# Altium schematic symbol library WE-VE.SchLib: 21 symbols
Pins are listed as number, name and electrical type; pins without a type are passive.

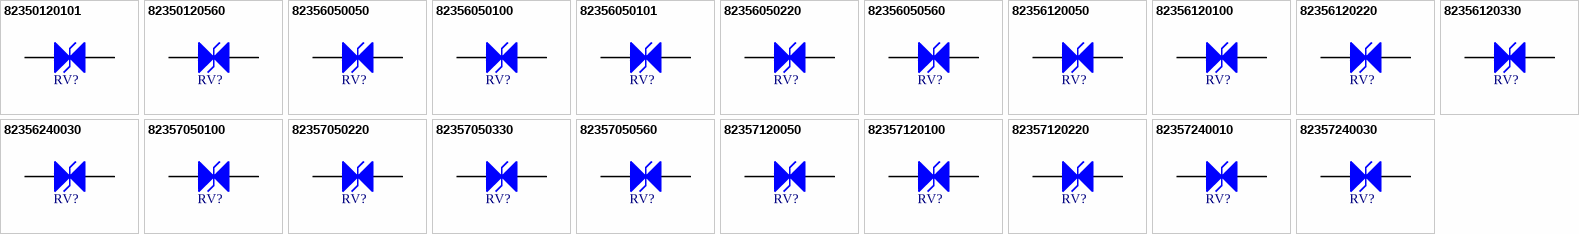
[diagram p0: symbols 82350120101 to 82357240030]

## 82350120101
designator RV?, comment 12VDC, 100pF  (value not drawn)
WE-VE ESD Suppressor, size 0805, 12VDC, 100pF; Manufacturer Part Number: 82350120101; Manufacturer: Wurth Elektronik; Case/Size Code: 0805; Clamping Voltage: 50V; ESD Voltage: 15kV; Insulation Resistance: 10MΩ; Leakage Current: 1µA; Operating Voltage (DC): 12V; ComponentLink1Description: Website Link; ComponentLink1URL: https://www.we-online.com/redexpert/article/82350120101?ad; ComponentLink2Description: Datasheet Link; ComponentLink2URL: https://www.we-online.com/redexpert/spec/82350120101?ad; Category: ESD Protection; Match Code: WE-VE; Mount: Surface Mount; Operating Temperature Max: 85°C; Operating Temperature Min: -40°C; Packaging: Tape and Reel; Length: 2mm; Width: 1.25mm; Height: 1.2mm; Capacitance: 100pF
footprint WE-VE_0805
pins: 1, 2

## 82350120560
designator RV?, comment 12VDC, 56pF  (value not drawn)
WE-VE ESD Suppressor, size 0805, 12VDC, 56pF; Manufacturer Part Number: 82350120560; Manufacturer: Wurth Elektronik; Case/Size Code: 0805; Clamping Voltage: 50V; ESD Voltage: 15kV; Insulation Resistance: 10MΩ; Leakage Current: 1µA; Operating Voltage (DC): 12V; ComponentLink1Description: Website Link; ComponentLink1URL: https://www.we-online.com/redexpert/article/82350120560?ad; ComponentLink2Description: Datasheet Link; ComponentLink2URL: https://www.we-online.com/redexpert/spec/82350120560?ad; Category: ESD Protection; Match Code: WE-VE; Mount: Surface Mount; Operating Temperature Max: 85°C; Operating Temperature Min: -40°C; Packaging: Tape and Reel; Length: 2mm; Width: 1.25mm; Height: 1.2mm; Capacitance: 56pF
footprint WE-VE_0805
pins: 1, 2

## 82356050050
designator RV?, comment 5VDC, 5pF  (value not drawn)
WE-VE ESD Suppressor, size 0603, 5VDC, 5pF; Manufacturer Part Number: 82356050050; Manufacturer: Wurth Elektronik; Case/Size Code: 0603; Clamping Voltage: 75V; ESD Voltage: 15kV; Insulation Resistance: 10MΩ; Leakage Current: 1µA; Operating Voltage (DC): 5V; ComponentLink1Description: Website Link; ComponentLink1URL: https://www.we-online.com/redexpert/article/82356050050?ad; ComponentLink2Description: Datasheet Link; ComponentLink2URL: https://www.we-online.com/redexpert/spec/82356050050?ad; Category: ESD Protection; Match Code: WE-VE; Mount: Surface Mount; Operating Temperature Max: 85°C; Operating Temperature Min: -40°C; Packaging: Tape and Reel; Length: 1.6mm; Width: 0.8mm; Height: 0.9mm; Capacitance: 5pF
footprint WE-VE_0603
pins: 1, 2

## 82356050100
designator RV?, comment 5VDC, 10pF  (value not drawn)
WE-VE ESD Suppressor, size 0603, 5VDC, 10pF; Manufacturer Part Number: 82356050100; Manufacturer: Wurth Elektronik; Case/Size Code: 0603; Clamping Voltage: 60V; ESD Voltage: 15kV; Insulation Resistance: 10MΩ; Leakage Current: 1µA; Operating Voltage (DC): 5V; ComponentLink1Description: Website Link; ComponentLink1URL: https://www.we-online.com/redexpert/article/82356050100?ad; ComponentLink2Description: Datasheet Link; ComponentLink2URL: https://www.we-online.com/redexpert/spec/82356050100?ad; Category: ESD Protection; Match Code: WE-VE; Mount: Surface Mount; Operating Temperature Max: 85°C; Operating Temperature Min: -40°C; Packaging: Tape and Reel; Length: 1.6mm; Width: 0.8mm; Height: 0.9mm; Capacitance: 10pF
footprint WE-VE_0603
pins: 1, 2

## 82356050101
designator RV?, comment 5VDC, 100pF  (value not drawn)
WE-VE ESD Suppressor, size 0603, 5VDC, 100pF; Manufacturer Part Number: 82356050101; Manufacturer: Wurth Elektronik; Case/Size Code: 0603; Clamping Voltage: 55V; ESD Voltage: 15kV; Insulation Resistance: 10MΩ; Leakage Current: 1µA; Operating Voltage (DC): 5V; ComponentLink1Description: Website Link; ComponentLink1URL: https://www.we-online.com/redexpert/article/82356050101?ad; ComponentLink2Description: Datasheet Link; ComponentLink2URL: https://www.we-online.com/redexpert/spec/82356050101?ad; Category: ESD Protection; Match Code: WE-VE; Mount: Surface Mount; Operating Temperature Max: 85°C; Operating Temperature Min: -40°C; Packaging: Tape and Reel; Length: 1.6mm; Width: 0.8mm; Height: 0.9mm; Capacitance: 100pF
footprint WE-VE_0603
pins: 1, 2

## 82356050220
designator RV?, comment 5VDC, 22pF  (value not drawn)
WE-VE ESD Suppressor, size 0603, 5VDC, 22pF; Manufacturer Part Number: 82356050220; Manufacturer: Wurth Elektronik; Case/Size Code: 0603; Clamping Voltage: 55V; ESD Voltage: 15kV; Insulation Resistance: 10MΩ; Leakage Current: 1µA; Operating Voltage (DC): 5V; ComponentLink1Description: Website Link; ComponentLink1URL: https://www.we-online.com/redexpert/article/82356050220?ad; ComponentLink2Description: Datasheet Link; ComponentLink2URL: https://www.we-online.com/redexpert/spec/82356050220?ad; Category: ESD Protection; Match Code: WE-VE; Mount: Surface Mount; Operating Temperature Max: 85°C; Operating Temperature Min: -40°C; Packaging: Tape and Reel; Length: 1.6mm; Width: 0.8mm; Height: 0.9mm; Capacitance: 22pF
footprint WE-VE_0603
pins: 1, 2

## 82356050560
designator RV?, comment 5VDC, 56pF  (value not drawn)
WE-VE ESD Suppressor, size 0603, 5VDC, 56pF; Manufacturer Part Number: 82356050560; Manufacturer: Wurth Elektronik; Case/Size Code: 0603; Clamping Voltage: 55V; ESD Voltage: 15kV; Insulation Resistance: 10MΩ; Leakage Current: 1µA; Operating Voltage (DC): 5V; ComponentLink1Description: Website Link; ComponentLink1URL: https://www.we-online.com/redexpert/article/82356050560?ad; ComponentLink2Description: Datasheet Link; ComponentLink2URL: https://www.we-online.com/redexpert/spec/82356050560?ad; Category: ESD Protection; Match Code: WE-VE; Mount: Surface Mount; Operating Temperature Max: 85°C; Operating Temperature Min: -40°C; Packaging: Tape and Reel; Length: 1.6mm; Width: 0.8mm; Height: 0.9mm; Capacitance: 56pF
footprint WE-VE_0603
pins: 1, 2

## 82356120050
designator RV?, comment 12VDC, 5pF  (value not drawn)
WE-VE ESD Suppressor, size 0603, 12VDC, 5pF; Manufacturer Part Number: 82356120050; Manufacturer: Wurth Elektronik; Case/Size Code: 0603; Clamping Voltage: 80V; ESD Voltage: 15kV; Insulation Resistance: 10MΩ; Leakage Current: 1µA; Operating Voltage (DC): 12V; ComponentLink1Description: Website Link; ComponentLink1URL: https://www.we-online.com/redexpert/article/82356120050?ad; ComponentLink2Description: Datasheet Link; ComponentLink2URL: https://www.we-online.com/redexpert/spec/82356120050?ad; Category: ESD Protection; Match Code: WE-VE; Mount: Surface Mount; Operating Temperature Max: 85°C; Operating Temperature Min: -40°C; Packaging: Tape and Reel; Length: 1.6mm; Width: 0.8mm; Height: 0.9mm; Capacitance: 5pF
footprint WE-VE_0603
pins: 1, 2

## 82356120100
designator RV?, comment 12VDC, 10pF  (value not drawn)
WE-VE ESD Suppressor, size 0603, 12VDC, 10pF; Manufacturer Part Number: 82356120100; Manufacturer: Wurth Elektronik; Case/Size Code: 0603; Clamping Voltage: 60V; ESD Voltage: 15kV; Insulation Resistance: 10MΩ; Leakage Current: 1µA; Operating Voltage (DC): 12V; ComponentLink1Description: Website Link; ComponentLink1URL: https://www.we-online.com/redexpert/article/82356120100?ad; ComponentLink2Description: Datasheet Link; ComponentLink2URL: https://www.we-online.com/redexpert/spec/82356120100?ad; Category: ESD Protection; Match Code: WE-VE; Mount: Surface Mount; Operating Temperature Max: 85°C; Operating Temperature Min: -40°C; Packaging: Tape and Reel; Length: 1.6mm; Width: 0.8mm; Height: 0.9mm; Capacitance: 10pF
footprint WE-VE_0603
pins: 1, 2

## 82356120220
designator RV?, comment 12VDC, 22pF  (value not drawn)
WE-VE ESD Suppressor, size 0603, 12VDC, 22pF; Manufacturer Part Number: 82356120220; Manufacturer: Wurth Elektronik; Case/Size Code: 0603; Clamping Voltage: 55V; ESD Voltage: 15kV; Insulation Resistance: 10MΩ; Leakage Current: 1µA; Operating Voltage (DC): 12V; ComponentLink1Description: Website Link; ComponentLink1URL: https://www.we-online.com/redexpert/article/82356120220?ad; ComponentLink2Description: Datasheet Link; ComponentLink2URL: https://www.we-online.com/redexpert/spec/82356120220?ad; Category: ESD Protection; Match Code: WE-VE; Mount: Surface Mount; Operating Temperature Max: 85°C; Operating Temperature Min: -40°C; Packaging: Tape and Reel; Length: 1.6mm; Width: 0.8mm; Height: 0.9mm; Capacitance: 22pF
footprint WE-VE_0603
pins: 1, 2

## 82356120330
designator RV?, comment 12VDC, 33pF  (value not drawn)
WE-VE ESD Suppressor, size 0603, 12VDC, 33pF; Manufacturer Part Number: 82356120330; Manufacturer: Wurth Elektronik; Case/Size Code: 0603; Clamping Voltage: 55V; ESD Voltage: 15kV; Insulation Resistance: 10MΩ; Leakage Current: 1µA; Operating Voltage (DC): 12V; ComponentLink1Description: Website Link; ComponentLink1URL: https://www.we-online.com/redexpert/article/82356120330?ad; ComponentLink2Description: Datasheet Link; ComponentLink2URL: https://www.we-online.com/redexpert/spec/82356120330?ad; Category: ESD Protection; Match Code: WE-VE; Mount: Surface Mount; Operating Temperature Max: 85°C; Operating Temperature Min: -40°C; Packaging: Tape and Reel; Length: 1.6mm; Width: 0.8mm; Height: 0.9mm; Capacitance: 33pF
footprint WE-VE_0603
pins: 1, 2

## 82356240030
designator RV?, comment 24VDC, 3pF  (value not drawn)
WE-VE ESD Suppressor, size 0603, 24VDC, 3pF; Manufacturer Part Number: 82356240030; Manufacturer: Wurth Elektronik; Case/Size Code: 0603; Clamping Voltage: 180V; ESD Voltage: 15kV; Insulation Resistance: 10MΩ; Leakage Current: 1µA; Operating Voltage (DC): 24V; ComponentLink1Description: Website Link; ComponentLink1URL: https://www.we-online.com/redexpert/article/82356240030?ad; ComponentLink2Description: Datasheet Link; ComponentLink2URL: https://www.we-online.com/redexpert/spec/82356240030?ad; Category: ESD Protection; Match Code: WE-VE; Mount: Surface Mount; Operating Temperature Max: 85°C; Operating Temperature Min: -40°C; Packaging: Tape and Reel; Length: 1.6mm; Width: 0.8mm; Height: 0.9mm; Capacitance: 3pF
footprint WE-VE_0603
pins: 1, 2

## 82357050100
designator RV?, comment 5VDC, 10pF  (value not drawn)
WE-VE ESD Suppressor, size 0402, 5VDC, 10pF; Manufacturer Part Number: 82357050100; Manufacturer: Wurth Elektronik; Case/Size Code: 0402; Clamping Voltage: 60V; ESD Voltage: 15kV; Insulation Resistance: 10MΩ; Leakage Current: 1µA; Operating Voltage (DC): 5V; ComponentLink1Description: Website Link; ComponentLink1URL: https://www.we-online.com/redexpert/article/82357050100?ad; ComponentLink2Description: Datasheet Link; ComponentLink2URL: https://www.we-online.com/redexpert/spec/82357050100?ad; Category: ESD Protection; Match Code: WE-VE; Mount: Surface Mount; Operating Temperature Max: 85°C; Operating Temperature Min: -40°C; Packaging: Tape and Reel; Length: 1mm; Width: 0.5mm; Height: 0.6mm; Capacitance: 10pF
footprint WE-VE_0402
pins: 1, 2

## 82357050220
designator RV?, comment 5VDC, 22pF  (value not drawn)
WE-VE ESD Suppressor, size 0402, 5VDC, 22pF; Manufacturer Part Number: 82357050220; Manufacturer: Wurth Elektronik; Case/Size Code: 0402; Clamping Voltage: 55V; ESD Voltage: 15kV; Insulation Resistance: 10MΩ; Leakage Current: 1µA; Operating Voltage (DC): 5V; ComponentLink1Description: Website Link; ComponentLink1URL: https://www.we-online.com/redexpert/article/82357050220?ad; ComponentLink2Description: Datasheet Link; ComponentLink2URL: https://www.we-online.com/redexpert/spec/82357050220?ad; Category: ESD Protection; Match Code: WE-VE; Mount: Surface Mount; Operating Temperature Max: 85°C; Operating Temperature Min: -40°C; Packaging: Tape and Reel; Length: 1mm; Width: 0.5mm; Height: 0.6mm; Capacitance: 22pF
footprint WE-VE_0402
pins: 1, 2

## 82357050330
designator RV?, comment 5VDC, 33pF  (value not drawn)
WE-VE ESD Suppressor, size 0402, 5VDC, 33pF; Manufacturer Part Number: 82357050330; Manufacturer: Wurth Elektronik; Case/Size Code: 0402; Clamping Voltage: 55V; ESD Voltage: 15kV; Insulation Resistance: 10MΩ; Leakage Current: 1µA; Operating Voltage (DC): 5V; ComponentLink1Description: Website Link; ComponentLink1URL: https://www.we-online.com/redexpert/article/82357050330?ad; ComponentLink2Description: Datasheet Link; ComponentLink2URL: https://www.we-online.com/redexpert/spec/82357050330?ad; Category: ESD Protection; Match Code: WE-VE; Mount: Surface Mount; Operating Temperature Max: 85°C; Operating Temperature Min: -40°C; Packaging: Tape and Reel; Length: 1mm; Width: 0.5mm; Height: 0.6mm; Capacitance: 33pF
footprint WE-VE_0402
pins: 1, 2

## 82357050560
designator RV?, comment 5VDC, 56pF  (value not drawn)
WE-VE ESD Suppressor, size 0402, 5VDC, 56pF; Manufacturer Part Number: 82357050560; Manufacturer: Wurth Elektronik; Case/Size Code: 0402; Clamping Voltage: 55V; ESD Voltage: 15kV; Insulation Resistance: 10MΩ; Leakage Current: 1µA; Operating Voltage (DC): 5V; ComponentLink1Description: Website Link; ComponentLink1URL: https://www.we-online.com/redexpert/article/82357050560?ad; ComponentLink2Description: Datasheet Link; ComponentLink2URL: https://www.we-online.com/redexpert/spec/82357050560?ad; Category: ESD Protection; Match Code: WE-VE; Mount: Surface Mount; Operating Temperature Max: 85°C; Operating Temperature Min: -40°C; Packaging: Tape and Reel; Length: 1mm; Width: 0.5mm; Height: 0.6mm; Capacitance: 56pF
footprint WE-VE_0402
pins: 1, 2

## 82357120050
designator RV?, comment 12VDC, 5pF  (value not drawn)
WE-VE ESD Suppressor, size 0402, 12VDC, 5pF; Manufacturer Part Number: 82357120050; Manufacturer: Wurth Elektronik; Case/Size Code: 0402; Clamping Voltage: 80V; ESD Voltage: 15kV; Insulation Resistance: 10MΩ; Leakage Current: 1µA; Operating Voltage (DC): 12V; ComponentLink1Description: Website Link; ComponentLink1URL: https://www.we-online.com/redexpert/article/82357120050?ad; ComponentLink2Description: Datasheet Link; ComponentLink2URL: https://www.we-online.com/redexpert/spec/82357120050?ad; Category: ESD Protection; Match Code: WE-VE; Mount: Surface Mount; Operating Temperature Max: 85°C; Operating Temperature Min: -40°C; Packaging: Tape and Reel; Length: 1mm; Width: 0.5mm; Height: 0.6mm; Capacitance: 5pF
footprint WE-VE_0402
pins: 1, 2

## 82357120100
designator RV?, comment 12VDC, 10pF  (value not drawn)
WE-VE ESD Suppressor, size 0402, 12VDC, 10pF; Manufacturer Part Number: 82357120100; Manufacturer: Wurth Elektronik; Case/Size Code: 0402; Clamping Voltage: 60V; ESD Voltage: 15kV; Insulation Resistance: 10MΩ; Leakage Current: 1µA; Operating Voltage (DC): 12V; ComponentLink1Description: Website Link; ComponentLink1URL: https://www.we-online.com/redexpert/article/82357120100?ad; ComponentLink2Description: Datasheet Link; ComponentLink2URL: https://www.we-online.com/redexpert/spec/82357120100?ad; Category: ESD Protection; Match Code: WE-VE; Mount: Surface Mount; Operating Temperature Max: 85°C; Operating Temperature Min: -40°C; Packaging: Tape and Reel; Length: 1mm; Width: 0.5mm; Height: 0.6mm; Capacitance: 10pF
footprint WE-VE_0402
pins: 1, 2

## 82357120220
designator RV?, comment 12VDC, 22pF  (value not drawn)
WE-VE ESD Suppressor, size 0402, 12VDC, 22pF; Manufacturer Part Number: 82357120220; Manufacturer: Wurth Elektronik; Case/Size Code: 0402; Clamping Voltage: 55V; ESD Voltage: 15kV; Insulation Resistance: 10MΩ; Leakage Current: 1µA; Operating Voltage (DC): 12V; ComponentLink1Description: Website Link; ComponentLink1URL: https://www.we-online.com/redexpert/article/82357120220?ad; ComponentLink2Description: Datasheet Link; ComponentLink2URL: https://www.we-online.com/redexpert/spec/82357120220?ad; Category: ESD Protection; Match Code: WE-VE; Mount: Surface Mount; Operating Temperature Max: 85°C; Operating Temperature Min: -40°C; Packaging: Tape and Reel; Length: 1mm; Width: 0.5mm; Height: 0.6mm; Capacitance: 22pF
footprint WE-VE_0402
pins: 1, 2

## 82357240010
designator RV?, comment 24VDC, 1pF  (value not drawn)
WE-VE ESD Suppressor, size 0402, 24VDC, 1pF; Manufacturer Part Number: 82357240010; Manufacturer: Wurth Elektronik; Case/Size Code: 0402; Clamping Voltage: 200V; ESD Voltage: 15kV; Insulation Resistance: 10MΩ; Leakage Current: 1µA; Operating Voltage (DC): 24V; ComponentLink1Description: Website Link; ComponentLink1URL: https://www.we-online.com/redexpert/article/82357240010?ad; ComponentLink2Description: Datasheet Link; ComponentLink2URL: https://www.we-online.com/redexpert/spec/82357240010?ad; Category: ESD Protection; Match Code: WE-VE; Mount: Surface Mount; Operating Temperature Max: 85°C; Operating Temperature Min: -40°C; Packaging: Tape and Reel; Length: 1mm; Width: 0.5mm; Height: 0.6mm; Capacitance: 1pF
footprint WE-VE_0402
pins: 1, 2

## 82357240030
designator RV?, comment 24VDC, 3pF  (value not drawn)
WE-VE ESD Suppressor, size 0402, 24VDC, 3pF; Manufacturer Part Number: 82357240030; Manufacturer: Wurth Elektronik; Case/Size Code: 0402; Clamping Voltage: 180V; ESD Voltage: 15kV; Insulation Resistance: 10MΩ; Leakage Current: 1µA; Operating Voltage (DC): 24V; ComponentLink1Description: Website Link; ComponentLink1URL: https://www.we-online.com/redexpert/article/82357240030?ad; ComponentLink2Description: Datasheet Link; ComponentLink2URL: https://www.we-online.com/redexpert/spec/82357240030?ad; Category: ESD Protection; Match Code: WE-VE; Mount: Surface Mount; Operating Temperature Max: 85°C; Operating Temperature Min: -40°C; Packaging: Tape and Reel; Length: 1mm; Width: 0.5mm; Height: 0.6mm; Capacitance: 3pF
footprint WE-VE_0402
pins: 1, 2